# EAGLE library part L12P (library con-amp-mt)
AMP MT CONNECTOR
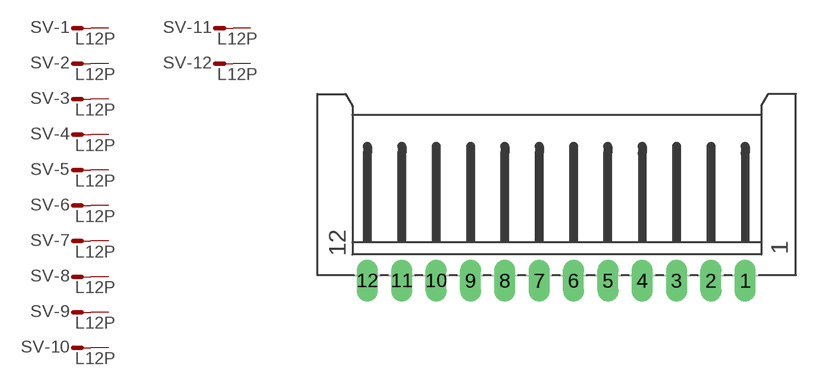
[diagram p6: symbol with the pads of L12P; footprint L12P]

Designator prefix SV; gates -1=M -2=M -3=M -4=M -5=M -6=M -7=M -8=M -9=M -10=M -11=M -12=M

## L12P (OC_FARNELL: unknown; OC_NEWARK: unknown)  [L12P]
1  -1:S  pas
2  -2:S  pas
3  -3:S  pas
4  -4:S  pas
5  -5:S  pas
6  -6:S  pas
7  -7:S  pas
8  -8:S  pas
9  -9:S  pas
10  -10:S  pas
11  -11:S  pas
12  -12:S  pas

## Footprint L12P (pad centres in mm)
AMP MT CONNECTOR
drill 1.016 long: 1 13.75,-6.25; 2 11.25,-6.25; 3 8.75,-6.25; 4 6.25,-6.25; 5 3.75,-6.25; 6 1.25,-6.25; 7 -1.25,-6.25; 8 -3.75,-6.25; 9 -6.25,-6.25; 10 -8.75,-6.25; 11 -11.25,-6.25; 12 -13.75,-6.25